# EAGLE library part USB_SPEAKER (library Project_2)
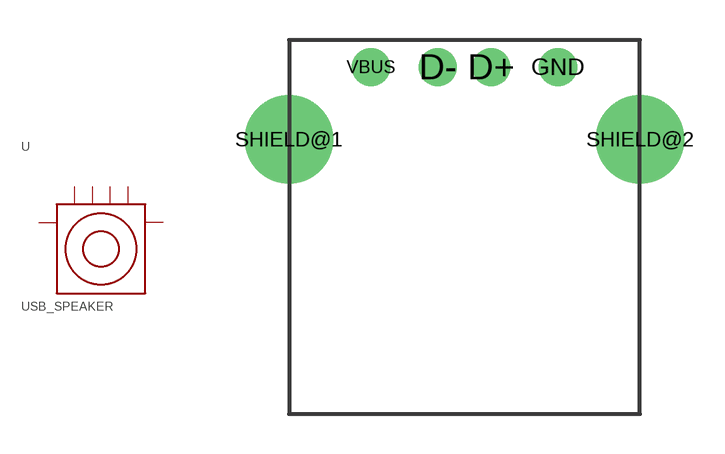
[diagram p2: symbol with the pads of USB_CONNECTOR; footprint USB_CONNECTOR]

Designator prefix U

## USB_SPEAKER  [USB_CONNECTOR]
D+  D+
D-  D-
GND  GND
SHIELD@1  CGND
SHIELD@2  CGND1
VBUS  VBUS

## Footprint USB_CONNECTOR (pad centres in mm)
shield goes to CGND
drill 0.92: D+ 7.565,12.99; D- 5.565,12.99; GND 10.065,12.99; VBUS 3.065,12.99
drill 2.3: SHIELD@1 -0.005,10.28; SHIELD@2 13.135,10.28